# Altium footprint library Switch.PcbLib: 7 footprints
Each footprint in its own frame and in the unit in brackets; x right, y up, seen from the top. Pads: shape width x height; smd on the part's side, far side on the other; paste and mask are expansions set on the pad; w line width, h text height; cw(c..) or ccw(c..) is an arc to the next point about the centre after c.
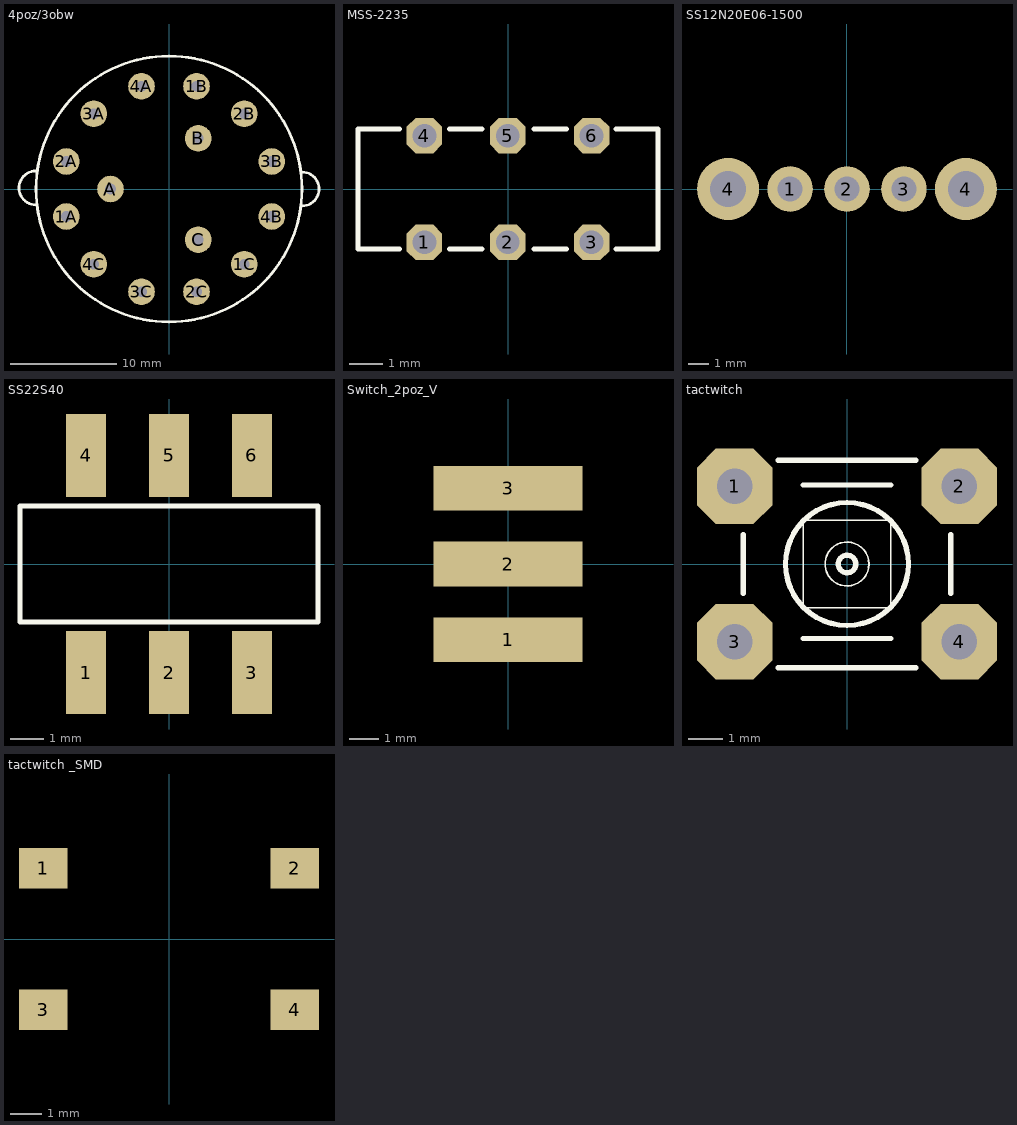
[diagram p0: the footprints below, top view; thin cyan lines are the x and y axes]

## 4poz/3obw [mm]
pads (15):
  round 2.5 hole 1: 1A(-9.659,-2.588) 1B(2.588,9.659) 1C(7.071,-7.071) 2A(-9.659,2.588) 2B(7.071,7.071) 2C(2.588,-9.659) 3A(-7.071,7.071) 3B(9.659,2.588) 3C(-2.588,-9.659) 4A(-2.588,9.659) 4B(9.659,-2.588) 4C(-7.071,-7.071) A(-5.5,0) B(2.75,4.763) C(2.75,-4.763)
Top Overlay:
  circle w0.254: c0,0 r12.5
  lines w0.254: -12.5,-1.5 cw(c-12.5,0.1) -12.5,1.7 ; 12.5,-1.6 ccw(c12.5,0) 12.5,1.6

## MSS-2235 [mil]
pads (6):
  oct 42x42 hole 28: 1(-98.71,-63) 2(-0.29,-63) 3(98.71,-63) 4(-98.71,63) 5(-0.29,63) 6(98.71,63)
Top Overlay:
  lines w6: -128.24,-70.87 -177.17,-70.87 -177.17,70.87 -128.24,70.87 ; -68.9,-70.87 -30.51,-70.87 ; -68.9,70.87 -30.51,70.87 ; 30.51,-70.87 68.9,-70.87 ; 30.51,70.87 68.9,70.87 ; 127.71,-70.87 177.17,-70.87 177.17,70.87 127.71,70.87
3D body: height 216.54, standoff -116.14, extent -177.17,-70.87 177.17,70.87

## SS12N20E06-1500 [mm]
pads (5):
  round 2.2 hole 1.2: 1(-2.75,0) 2(0,0) 3(2.75,0)
  round 3 hole 1.75: 4(-5.75,0) 4(5.75,0)
3D body: height 2, standoff 0, extent -2.8,-1.075 2.8,1.125
3D body: height 5.5, standoff 0, extent -5.774,-2.849 5.724,2.849
3D body: height 2.5, standoff 2, extent -2.8,-1.075 0,1.125
3D body: height 2.5, standoff -2.5, extent 5.5,-0.75 6,0.75
3D body: height 2.5, standoff -2.5, extent -6,-0.75 -5.5,0.75
3D body: height 0, standoff -3.6, extent -0.425,-0.25 0.375,0.25
3D body: height 0, standoff -3.6, extent -3.15,-0.25 -2.35,0.25
3D body: height 11.5, standoff 2.5, extent 0,-1.075 2.8,1.125
3D body: height 0, standoff -3.6, extent 2.35,-0.25 3.15,0.25

## SS22S40 [mm]
pads (6):
  rect 1.2x2.5 smd: 1(-2.5,-3.275) 2(0,-3.275) 3(2.5,-3.275) 4(-2.5,3.275) 5(0,3.275) 6(2.5,3.275)
Top Overlay:
  lines w0.152: -4.5,-1.75 4.5,-1.75 4.5,1.75 -4.5,1.75 -4.5,-1.75
3D body: height 5.45, standoff 0, extent -4.521,-3.45 4.529,3.45

## Switch_2poz_V [mm]
pads (3):
  rect 5x1.5 smd: 1(0,-2.54) 2(0,0) 3(0,2.54)
3D body: height 2, standoff -1, extent -13,1 -10,3.5
3D body: height 3, standoff -2, extent -5.5,-6 -4.5,-5.75
3D body: height 3, standoff -2, extent -5.5,7.25 -4.5,7.5
3D body: height 3, standoff -2, extent -10,-6 -5.5,7.5
3D body: height 0.5, standoff 0, extent -5.5,-2.98 2,-2.08
3D body: height 0.5, standoff 0, extent -5.5,-0.44 2,0.46
3D body: height 0.5, standoff 0, extent -5.5,2.1 2,3

## tactwitch [mil]
pads (4):
  oct 86x86 hole 40: 1(-127.95,88.58) 2(127.95,88.58) 3(-127.95,-88.58) 4(127.95,-88.58)
Top Overlay:
  circle w6: c0,0 r10
  circle w6: c0,0 r70
  circle w2: c0,0 r25
  lines w2: -50,-50 50,-50 50,50 -50,50 -50,-50
  lines w6: -118.11,-33.46 -118.11,33.46 ; -78.74,-118.11 78.74,-118.11 ; -78.74,118.11 78.74,118.11 ; -50,-85 50,-85 ; -50,90 50,90 ; 118.11,-33.46 118.11,33.46
3D body: height 275.59, standoff -137.8, extent -155.51,-122.05 155.51,122.05

## tactwitch _SMD [mm]
pads (4):
  rect 1.55x1.3 smd: 1(-4,2.25) 2(4,2.25) 3(-4,-2.25) 4(4,-2.25)
3D body: height 7, standoff 0, extent -4.5,-3 4.5,3